# Altium footprint library Addition.PcbLib: 1 footprints
Each footprint in its own frame and in the unit in brackets; x right, y up, seen from the top. Pads: shape width x height; smd on the part's side, far side on the other; paste and mask are expansions set on the pad; w line width, h text height; cw(c..) or ccw(c..) is an arc to the next point about the centre after c.
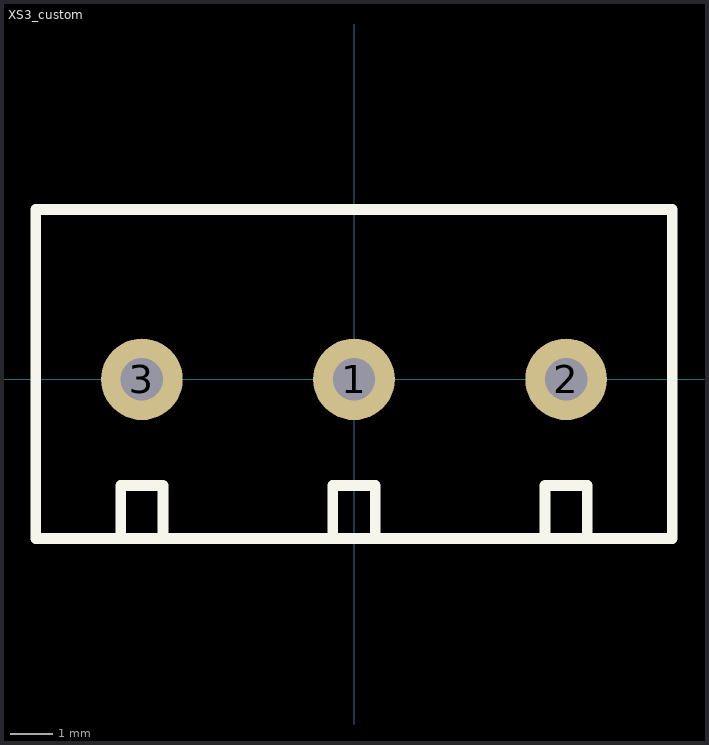
[diagram p0: the footprint, top view; thin cyan lines are the x and y axes]

## XS3_custom [mm]
pads (3):
  round 1.924 hole 1: 1(0,0) 2(5,0) 3(-5,0)
Top Overlay:
  lines w0.254: -7.5,-3.75 -7.5,4 7.5,4 7.5,-3.75 -7.5,-3.75 ; -5.5,-3.75 -5.5,-2.5 -4.5,-2.5 -4.5,-3.75 -5.5,-3.75 ; -0.5,-3.75 -0.5,-2.5 0.5,-2.5 0.5,-3.75 -0.5,-3.75 ; 4.5,-3.75 4.5,-2.5 5.5,-2.5 5.5,-3.75 4.5,-3.75
3D body "KF301-3P_v1_red.step": height 10.46, standoff -3.7, extent -7.85,-3.6 7.5,4